# Altium schematic symbol library LM4871.Schlib: 1 symbol
Pins are listed as number, name and electrical type; pins without a type are passive.

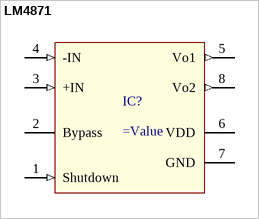
[diagram p0: symbol LM4871]

## LM4871
designator IC?
=Description
pins: 1 Shutdown (in), 2 Bypass, 3 +IN (in), 4 -IN (in), 5 Vo1 (out), 6 VDD (power), 7 GND (power), 8 Vo2 (out)